# Altium footprint library UWB_DWM1000_ParaChina.PcbLib: 22 footprints (part 2 of 2)
Each footprint in its own frame and in the unit in brackets; x right, y up, seen from the top. Pads: shape width x height; smd on the part's side, far side on the other; paste and mask are expansions set on the pad; w line width, h text height; cw(c..) or ccw(c..) is an arc to the next point about the centre after c.
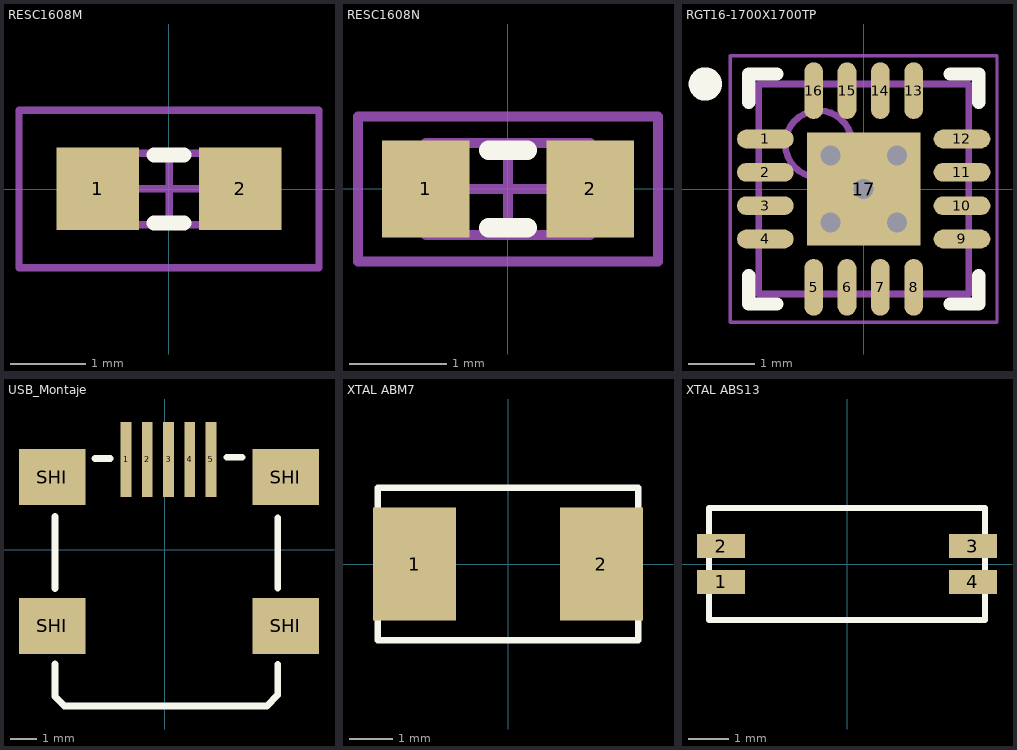
[diagram p1: the footprints below, top view; thin cyan lines are the x and y axes]

## RESC1608M [mm] "Chip Resistor, Body 1.6x0.8mm, IPC Low Density"
height 0.6
pads (2):
  rect 1.1x1.1 smd: 1(-0.95,0) 2(0.95,0)
Top Overlay:
  lines w0.2: -0.2,-0.45 0.2,-0.45 ; -0.2,0.45 0.2,0.45
Mechanical 13:
  lines w0.1: -0.85,-0.475 -0.85,0.475 0.85,0.475 0.85,-0.475 -0.85,-0.475
Mechanical 15:
  lines w0.1: -0.475,0 0.475,0 ; 0,-0.475 0,0.475 ; -2,-1.05 -2,1.05 2,1.05 2,-1.05 -2,-1.05
3D body: height 0.6, standoff 0, extent -0.85,-0.475 0.85,0.475

## RESC1608N [mm] "Chip Resistor, Body 1.6x0.8mm, IPC Medium Density"
height 0.6
pads (2):
  rect 0.9x1 smd: 1(-0.85,0) 2(0.85,0)
Top Overlay:
  lines w0.2: -0.2,-0.4 0.2,-0.4 ; -0.2,0.4 0.2,0.4
Mechanical 13:
  lines w0.1: -0.85,-0.475 0.85,-0.475 0.85,0.475 -0.85,0.475 -0.85,-0.475
Mechanical 15:
  lines w0.1: -0.475,0 0.475,0 ; 0,-0.475 0,0.475 ; -1.55,-0.75 1.55,-0.75 1.55,0.75 -1.55,0.75 -1.55,-0.75
3D body: height 0.6, standoff 0, extent -0.85,-0.475 0.85,0.475

## RGT16-1700X1700TP [mm] "QFN, 16-Leads, Body 3x3mm, Pitch 0.5mm, Thermal Pad 1.7x1.7mm, TI Recommended"
height 1
pads (17):
  oval 0.85x0.28 smd paste-0.025 mask+0.07: 1(-1.475,0.75) 2(-1.475,0.25) 3(-1.475,-0.25) 4(-1.475,-0.75) 9(1.475,-0.75) 10(1.475,-0.25) 11(1.475,0.25) 12(1.475,0.75)
  oval 0.28x0.85 smd paste-0.025 mask+0.07: 5(-0.75,-1.475) 6(-0.25,-1.475) 7(0.25,-1.475) 8(0.75,-1.475) 13(0.75,1.475) 14(0.25,1.475) 15(-0.25,1.475) 16(-0.75,1.475)
  rect 1.7x1.7 smd paste-0.85 mask+0.07: 17(0,0)
via 0,0 diameter 0.5 hole 0.3
via 0.5,0.5 diameter 0.5 hole 0.3
via 0.5,-0.5 diameter 0.5 hole 0.3
via -0.5,-0.5 diameter 0.5 hole 0.3
via -0.5,0.5 diameter 0.5 hole 0.3
Top Overlay:
  circle w0.25: c-2.375,1.575 r0.125
  lines w0.2: -1.725,-1.3 -1.725,-1.725 -1.3,-1.725 ; -1.725,1.3 -1.725,1.725 -1.3,1.725 ; 1.3,-1.725 1.725,-1.725 1.725,-1.3 ; 1.3,1.725 1.725,1.725 1.725,1.3
Top Paste:
  region: -0.1,0.1 -0.1,0.8 -0.8,0.8 -0.8,0.1
  region: -0.1,-0.1 -0.8,-0.1 -0.8,-0.8 -0.1,-0.8
  region: 0.1,-0.1 0.1,-0.8 0.8,-0.8 0.8,-0.1
  rectangle: 0.1,0.1 0.8,0.8
Mechanical 13:
  circle w0.1: c-0.675,0.675 r0.5
  lines w0.1: -1.575,-1.575 -1.575,1.575 1.575,1.575 1.575,-1.575 -1.575,-1.575
Mechanical 15:
  lines w0.05: -2,-2 -2,2 2,2 2,-2 -2,-2
  lines w0.1: -0.5,0 0.5,0 ; 0,-0.5 0,0.5
3D body: height 1, standoff 0, extent -1.575,-1.575 1.575,1.575

## USB_Montaje [mm] "Conector USB de montaje superficial"
pads (9):
  rect 0.4x2.8 smd: 1(-1.46,3.39) 2(-0.664,3.39) 3(0.132,3.39) 4(0.929,3.39) 5(1.725,3.39)
  rect 2.5x2.1 smd: SHI(-4.225,-2.85) SHI(-4.225,2.725) SHI(4.525,2.725) SHI(4.525,-2.85)
Top Overlay:
  lines w0.254: -4.125,-4.275 -4.125,-5.5 -3.775,-5.85 3.825,-5.85 4.225,-5.45 4.225,-4.3 ; -4.125,-1.45 -4.125,1.25 ; -2.625,3.425 -2.05,3.425 ; 2.325,3.475 2.9,3.475 ; 4.225,-1.425 4.225,1.2
3D body "USB_mini_B.STEP": height 3.95, standoff -1, extent -5.2,-5.65 5.5,3.55

## XTAL ABM7 [mm] "Cristal de cuarzo de montaje superficial"
pads (2):
  rect 1.9x2.6 smd: 1(-2.15,0) 2(2.15,0)
Top Overlay:
  lines w0.152: -3,-1.75 -3,1.75 3,1.75 3,-1.75 -3,-1.75
3D body "User Library-Xtal-ABM7.STEP": height 1.44, standoff 0.04, extent -3.1,-1.85 3.1,1.85

## XTAL ABS13 [mm] "Cristal de cuarzo de montaje superficial"
pads (4):
  rect 1.2x0.6 smd: 1(-3.15,-0.45) 2(-3.15,0.45) 3(3.15,0.45) 4(3.15,-0.45)
Top Overlay:
  lines w0.152: -3.45,-1.4 -3.45,1.4 3.45,1.4 3.45,-1.4 -3.45,-1.4
3D body "User Library-KX-327LT.STEP": height 1.4, standoff 0, extent -3.45,-0.75 3.45,0.75